# Altium footprint library RayPCB20210502.PcbLib: 211 footprints (part 11 of 14)
Each footprint in its own frame and in the unit in brackets; x right, y up, seen from the top. Pads: shape width x height; smd on the part's side, far side on the other; paste and mask are expansions set on the pad; w line width, h text height; cw(c..) or ccw(c..) is an arc to the next point about the centre after c.
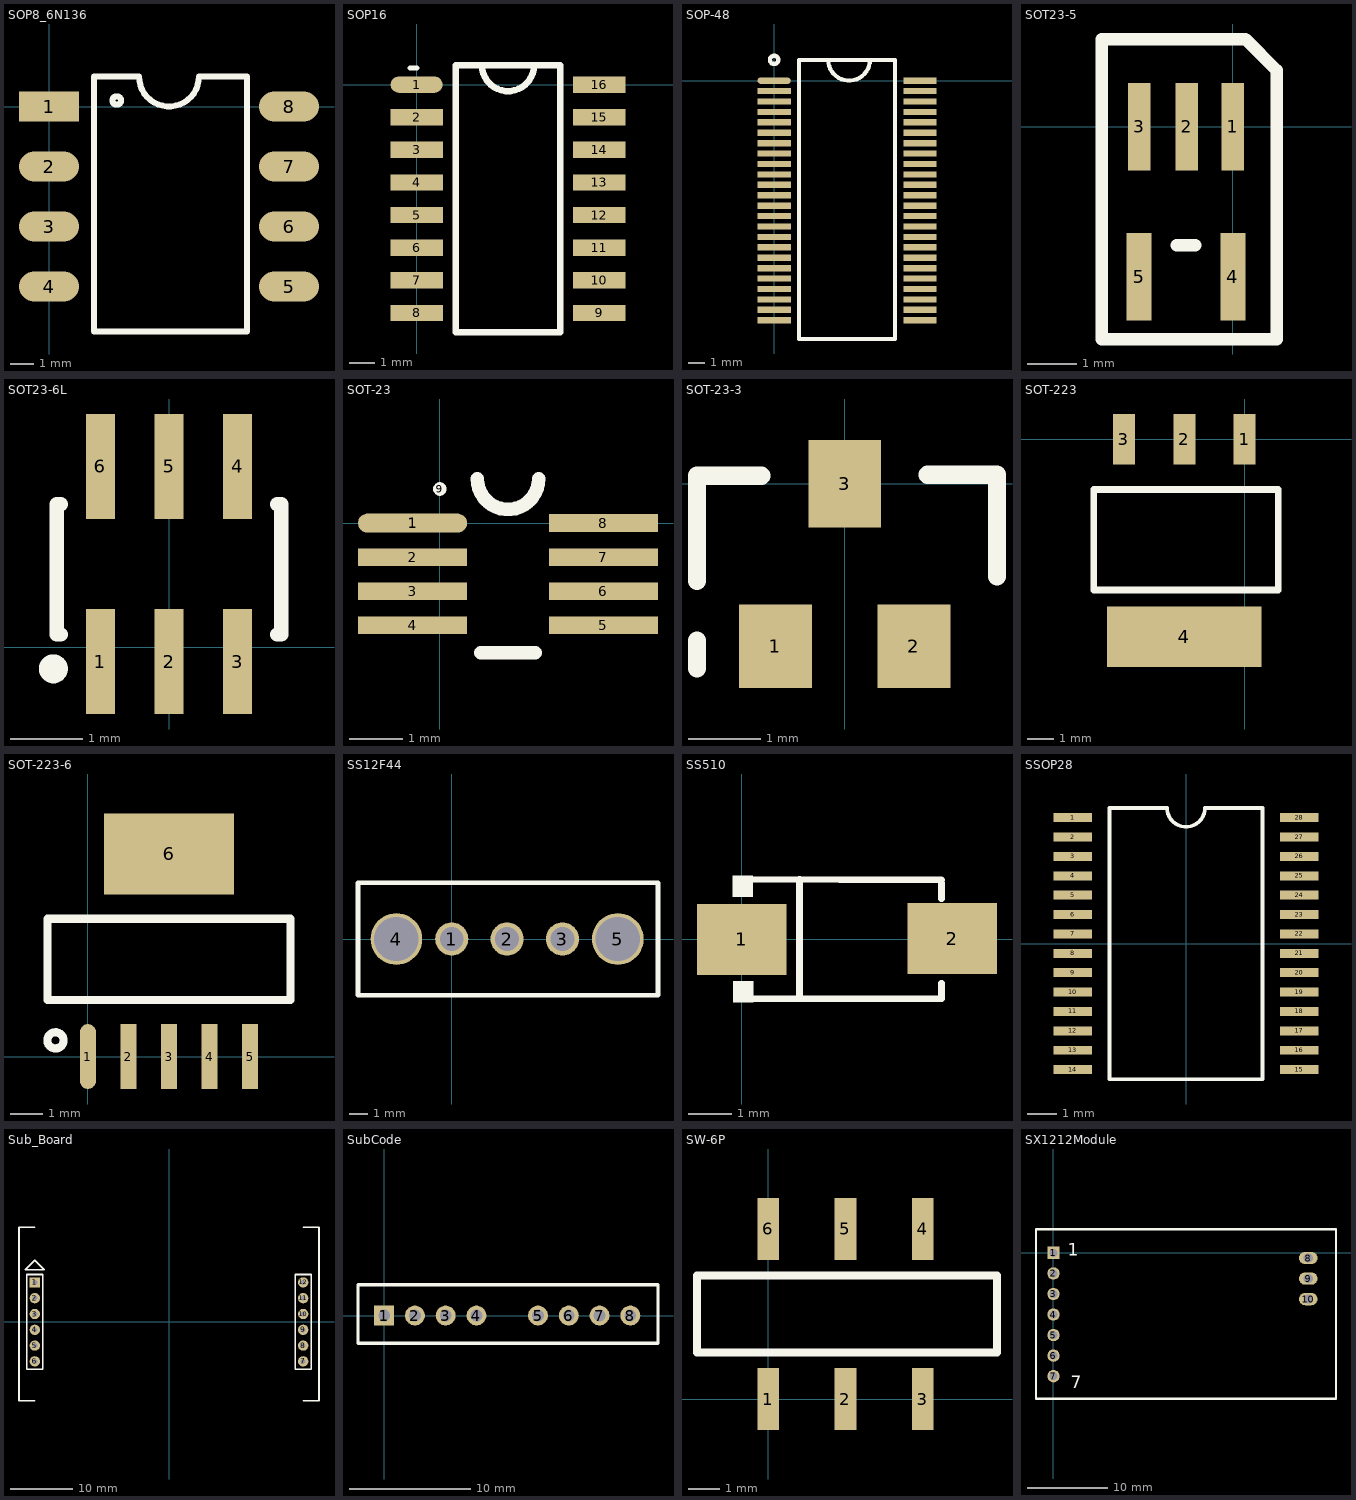
[diagram p10: the footprints below, top view; thin cyan lines are the x and y axes]

## SOP8_6N136 [mil]
pads (8):
  rect 100x50 smd: 1(0,0)
  oval 100x50 smd: 2(0,-100) 3(0,-200) 4(0,-300) 5(400,-300) 6(400,-200) 7(400,-100) 8(400,0)
Top Overlay:
  circle w10: c112.93,10 r7.07
  lines w10: 75,-375 75,50 150,50 ccw(c200,50) 250,50 330,50 330,-375 75,-375

## SOP16 [mil]
pads (16):
  oval 80x25 smd: 1(0,0)
  rect 80x25 smd: 2(0,-50) 3(0,-100) 4(0,-150) 5(0,-200) 6(0,-250) 7(0,-300) 8(0,-350) 9(280,-350) 10(280,-300) 11(280,-250) 12(280,-200) 13(280,-150) 14(280,-100) 15(280,-50) 16(280,0)
Top Overlay:
  lines w8: -10.24,25.59 0,25.59
  lines w10: 100,30 ccw(c140,30) 180,30 ; 60,-380 60,30 220,30 220,-380 60,-380

## SOP-48 [mil]
pads (48):
  oval 80x15 smd: 1(0,0)
  rect 80x15 smd: 2(0,-25) 3(0,-50) 4(0,-75) 5(0,-100) 6(0,-125) 7(0,-150) 8(0,-175) 9(0,-200) 10(0,-225) 11(0,-250) 12(0,-275) 13(0,-300) 14(0,-325) 15(0,-350) 16(0,-375) 17(0,-400) 18(0,-425) 19(0,-450) 20(0,-475) 21(0,-500) 22(0,-525) 23(0,-550) 24(0,-575) 25(350,-575) 26(350,-550) 27(350,-525) 28(350,-500) 29(350,-475) 30(350,-450) 31(350,-425) 32(350,-400) 33(350,-375) 34(350,-350) 35(350,-325) 36(350,-300) 37(350,-275) 38(350,-250) 39(350,-225) 40(350,-200) 41(350,-175) 42(350,-150) 43(350,-125) 44(350,-100) 45(350,-75) 46(350,-50) 47(350,-25) 48(350,0)
Top Overlay:
  circle w10: c0,50 r10
  lines w10: 130,50 ccw(c180,50) 230,50 ; 60,-620 290,-620 290,50 60,50 60,-620

## SOT23-5 [mil]
pads (5):
  rect 18x70 smd: 1(0,0) 2(-37,0) 3(-75,0)
  rect 20x70 smd: 4(0,-120) 5(-75,-120)
Top Overlay:
  lines w10: -45,-95 -30,-95 ; -105,-170 35,-170 35,-150 35,45 10,70 -105,70 -105,25 -105,-170

## SOT23-6L [mm]
pads (6):
  rect 0.4x1.45 smd: 1(-0.95,-0.2) 2(0,-0.2) 3(0.95,-0.2) 4(0.95,2.5) 5(0,2.5) 6(-0.95,2.5)
Top Overlay:
  circle w0.3: c-1.6,-0.3 r0.05
  lines w0.2: -1.5,0.175 -1.55,0.175 -1.55,1.975 -1.5,1.975 ; 1.5,0.175 1.55,0.175 1.55,1.975 1.5,1.975

## SOT-23 [mil] "8Pin small SOP  -AD5620"
pads (9):
  oval 80x14 smd: 1(-20,0)
  rect 80x13 smd: 2(-20,-25) 3(-20,-50) 4(-20,-75) 5(120,-75) 6(120,-50) 7(120,-25) 8(120,0)
  round 10 on Top Overlay: 9(0,25)
Top Overlay:
  lines w10: 27.5,32.5 ccw(c50,32.5) 72.5,32.5 ; 30,-95 70,-95

## SOT-23-3 [mil]
pads (3):
  rect 39.37x45 smd: 1(-37.5,-88) 2(37.5,-88)
  rect 39.37x47.24 smd: 3(0,0)
Top Overlay:
  lines w10: -80,-100 -80,-85 ; -80,-52.5 -80,4.43 -45.25,4.43 ; 45,5 82.5,5 82.5,-50

## SOT-223 [mil]
pads (4):
  rect 33x75 smd: 1(0,0) 2(-90,0) 3(-180,0)
  rect 230x90 smd: 4(-90,-295)
Top Overlay:
  lines w10: -225,-225 -225,-75 50,-75 50,-225 -225,-225

## SOT-223-6 [mil] "6pin"
pads (6):
  oval 20x80 smd: 1(0,0)
  rect 20x80 smd: 2(50,0) 3(100,0) 4(150,0) 5(200,0)
  rect 160x100 smd: 6(100,250)
Top Overlay:
  circle w10: c-40,20 r10
  lines w10: -50,70 250,70 250,170 -50,170 -50,70

## SS12F44 [mm]
pads (5):
  round 1.8 hole 1.3: 1(0,0) 2(3,0) 3(6,0)
  round 2.8 hole 2.4: 4(-3,0) 5(9,0)
Top Overlay:
  lines w0.254: -5.08,-3.048 11.176,-3.048 11.176,3.048 -5.08,3.048 -5.08,-3.048

## SS510 [mm]
pads (2):
  rect 2.046x1.62 smd: 1(0,0) 2(4.808,0.019)
Top Overlay:
  region: 0.259,-1.431 0.259,-0.953 -0.198,-0.953 -0.198,-1.431
  region: 0.246,1.449 0.246,0.972 -0.211,0.972 -0.211,1.449
  lines w0.152: -0.122,1.373 4.563,1.356 ; -0.099,-1.354 4.569,-1.354 ; 1.319,-1.354 1.319,1.373 ; 4.563,-1.354 4.563,-1.004 ; 4.563,0.929 4.563,1.279
Mechanical 15:
  region: 4.546,-0.634 4.546,0.653 4.353,0.653 4.353,-0.634
  region: 4.836,-0.087 4.836,0.106 4.063,0.106 4.063,-0.087
  region: -0.028,-0.087 -0.028,0.106 0.745,0.106 0.745,-0.087

## SSOP28 [mm] "FT232_RL"
pads (28):
  rect 1.3x0.3 smd: 1(-3.8,4.225) 2(-3.8,3.575) 3(-3.8,2.925) 4(-3.8,2.275) 5(-3.8,1.625) 6(-3.8,0.975) 7(-3.8,0.325) 8(-3.8,-0.325) 9(-3.8,-0.975) 10(-3.8,-1.625) 11(-3.8,-2.275) 12(-3.8,-2.925) 13(-3.8,-3.575) 14(-3.8,-4.225) 15(3.8,-4.225) 16(3.8,-3.575) 17(3.8,-2.925) 18(3.8,-2.275) 19(3.8,-1.625) 20(3.8,-0.975) 21(3.8,-0.325) 22(3.8,0.325) 23(3.8,0.975) 24(3.8,1.625) 25(3.8,2.275) 26(3.8,2.925) 27(3.8,3.575) 28(3.8,4.225)
Top Overlay:
  lines w0.127: -2.563,-4.55 2.563,-4.55 2.563,4.55 0.635,4.55 cw(c0,4.55) -0.635,4.55 -2.563,4.55 -2.563,-4.55

## Sub_Board [mil]
pads (12):
  rect 65x65 hole 32: 1(-850,250)
  round 65 hole 32: 2(-850,150) 3(-850,50) 4(-850,-50) 5(-850,-150) 6(-850,-250) 7(850,-250) 8(850,-150) 9(850,-50) 10(850,50) 11(850,150) 12(850,250)
Top Overlay:
  lines w10: -850,-500 -950,-500 -950,600 -850,600 ; 850,-500 950,-500 950,600 850,600 ; -910,330 -790,330 -850,390 -910,330 ; -900,-300 -800,-300 -800,300 -900,300 -900,-300 ; 800,-300 900,-300 900,300 800,300 800,-300

## SubCode [mil]
pads (8):
  rect 65x65 hole 38: 1(0,0)
  round 65 hole 38: 2(100,0) 3(200,0) 4(300,0) 5(500,0) 6(600,0) 7(700,0) 8(800,0)
Top Overlay:
  lines w10: -85,-90 890,-90 890,100 -85,100 -85,-90

## SW-6P [mm]
pads (6):
  rect 0.7x2 smd: 1(0,0) 2(2.5,0) 3(5,0) 4(5,5.5) 5(2.5,5.5) 6(0,5.5)
Top Overlay:
  lines w0.254: -2.3,1.5 -2.3,4 7.4,4 7.4,1.5 -2.3,1.5

## SX1212Module [mil]
pads (10):
  rect 60x60 hole 39: 1(0,0)
  round 60 hole 39: 2(0,-100) 3(0,-200) 4(0,-300) 5(0,-400) 6(0,-500) 7(0,-600)
  oval 90x60 hole 45: 8(1240,-25) 9(1240,-125) 10(1240,-225)
Top Overlay:
  lines w10: -85,-710 -85,115 1375,115 1375,-710 -85,-710
  text "7" at 85,-660 h60
  text "1" at 70,-15 h60